# Altium footprint library WLCSP64N0.40P8X8_3.6X3.5X0.6-64_64.PcbLib: 1 footprints
Each footprint in its own frame and in the unit in brackets; x right, y up, seen from the top. Pads: shape width x height; smd on the part's side, far side on the other; paste and mask are expansions set on the pad; w line width, h text height; cw(c..) or ccw(c..) is an arc to the next point about the centre after c.
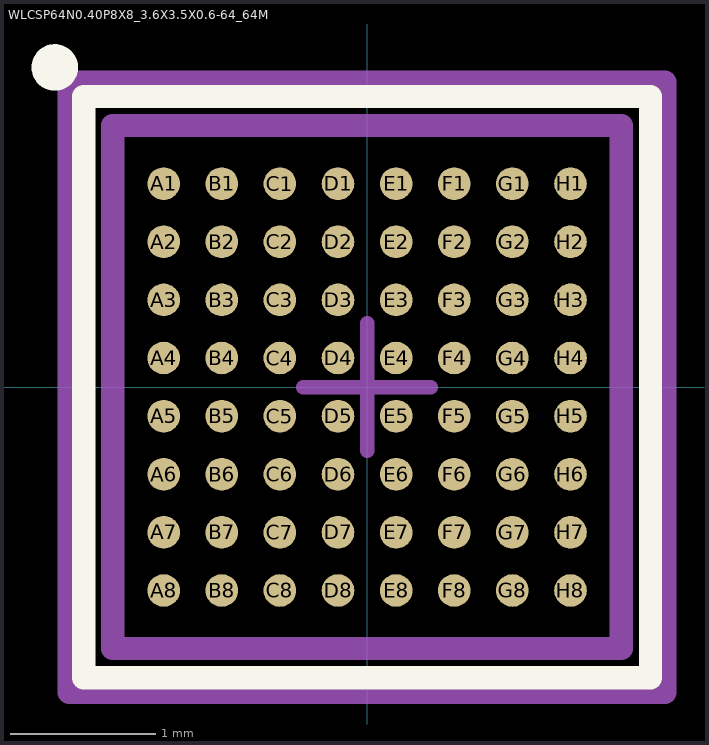
[diagram p0: the footprint, top view; thin cyan lines are the x and y axes]

## WLCSP64N0.40P8X8_3.6X3.5X0.6-64_64M [mm] "WLCSP 64 3.5x3.6x0.6 P 0.4 mm"
height 0.6
pads (64):
  round 0.225 smd: A1(-1.4,1.4) A2(-1.4,1) A3(-1.4,0.6) A4(-1.4,0.2) A5(-1.4,-0.2) A6(-1.4,-0.6) A7(-1.4,-1) A8(-1.4,-1.4) B1(-1,1.4) B2(-1,1) B3(-1,0.6) B4(-1,0.2) B5(-1,-0.2) B6(-1,-0.6) B7(-1,-1) B8(-1,-1.4) C1(-0.6,1.4) C2(-0.6,1) C3(-0.6,0.6) C4(-0.6,0.2) C5(-0.6,-0.2) C6(-0.6,-0.6) C7(-0.6,-1) C8(-0.6,-1.4) D1(-0.2,1.4) D2(-0.2,1) D3(-0.2,0.6) D4(-0.2,0.2) D5(-0.2,-0.2) D6(-0.2,-0.6) D7(-0.2,-1) D8(-0.2,-1.4) E1(0.2,1.4) E2(0.2,1) E3(0.2,0.6) E4(0.2,0.2) E5(0.2,-0.2) E6(0.2,-0.6) E7(0.2,-1) E8(0.2,-1.4) F1(0.6,1.4) F2(0.6,1) F3(0.6,0.6) F4(0.6,0.2) F5(0.6,-0.2) F6(0.6,-0.6) F7(0.6,-1) F8(0.6,-1.4) G1(1,1.4) G2(1,1) G3(1,0.6) G4(1,0.2) G5(1,-0.2) G6(1,-0.6) G7(1,-1) G8(1,-1.4) H1(1.4,1.4) H2(1.4,1) H3(1.4,0.6) H4(1.4,0.2) H5(1.4,-0.2) H6(1.4,-0.6) H7(1.4,-1) H8(1.4,-1.4)
Top Overlay:
  circle w0.16: c-2.15,2.2 r0.08
  lines w0.16: -1.95,-2 1.95,-2 1.95,2 -1.95,2 -1.95,-2
Top Component Center:
  lines w0.1: -0.437,0 0.437,0 ; 0,-0.437 0,0.437
Top Courtyard:
  lines w0.16: -2.05,-2.1 2.05,-2.1 2.05,2.1 -2.05,2.1 -2.05,-2.1
Top Assembly:
  lines w0.16: -1.75,-1.8 1.75,-1.8 1.75,1.8 -1.75,1.8 -1.75,-1.8
3D body "WLCSP64N0.40P8X8_3.6X3.5X0.6-64_64M.STEP": height 0.6, standoff 0, extent -1.75,-1.8 1.75,1.8